# Altium footprint library WQFN-16(4.0X4.0).PcbLib: 1 footprints
Each footprint in its own frame and in the unit in brackets; x right, y up, seen from the top. Pads: shape width x height; smd on the part's side, far side on the other; paste and mask are expansions set on the pad; w line width, h text height; cw(c..) or ccw(c..) is an arc to the next point about the centre after c.
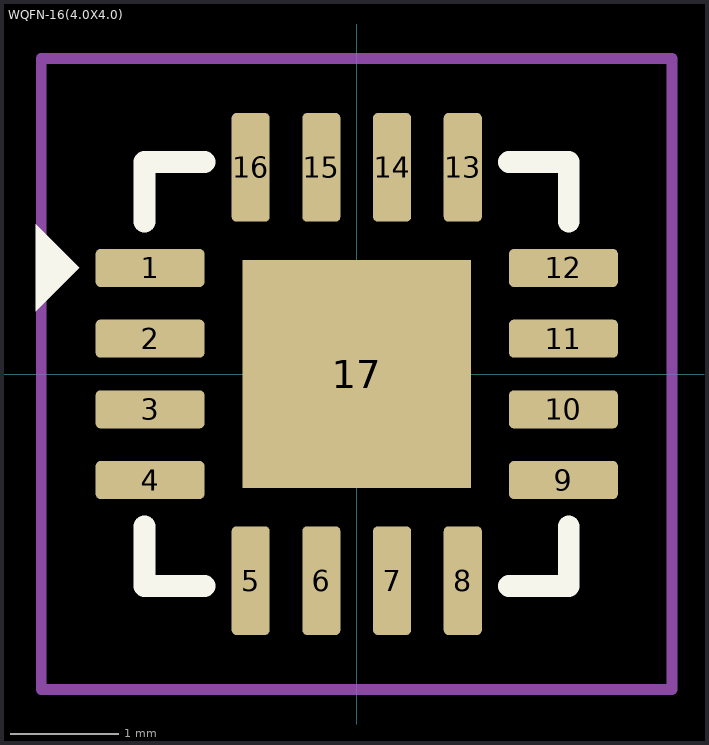
[diagram p0: the footprint, top view; thin cyan lines are the x and y axes]

## WQFN-16(4.0X4.0) [mm]
pads (17):
  rrect25% 1x0.35 smd: 1(-1.9,0.975) 2(-1.9,0.325) 3(-1.9,-0.325) 4(-1.9,-0.975) 9(1.9,-0.975) 10(1.9,-0.325) 11(1.9,0.325) 12(1.9,0.975)
  rrect25% 0.35x1 smd: 5(-0.975,-1.9) 6(-0.325,-1.9) 7(0.325,-1.9) 8(0.975,-1.9) 13(0.975,1.9) 14(0.325,1.9) 15(-0.325,1.9) 16(-0.975,1.9)
  rect 2.1x2.1 smd paste-0.386: 17(0,0)
Top Overlay:
  region: -2.95,0.575 -2.95,1.375 -2.55,0.975
  lines w0.2: -1.95,-1.4 -1.95,-1.95 -1.4,-1.95 ; -1.95,1.4 -1.95,1.95 -1.4,1.95 ; 1.4,-1.95 1.95,-1.95 1.95,-1.4 ; 1.4,1.95 1.95,1.95 1.95,1.4
Top Courtyard:
  lines w0.1: -2.9,-2.9 -2.9,2.9 2.9,2.9 2.9,-2.9 -2.9,-2.9
3D body: height 0.25, standoff 0, extent -1.95,-1.95 1.95,1.95